# Altium footprint library NewPCBlib.PcbLib: 27 footprints (part 2 of 2)
Each footprint in its own frame and in the unit in brackets; x right, y up, seen from the top. Pads: shape width x height; smd on the part's side, far side on the other; paste and mask are expansions set on the pad; w line width, h text height; cw(c..) or ccw(c..) is an arc to the next point about the centre after c.
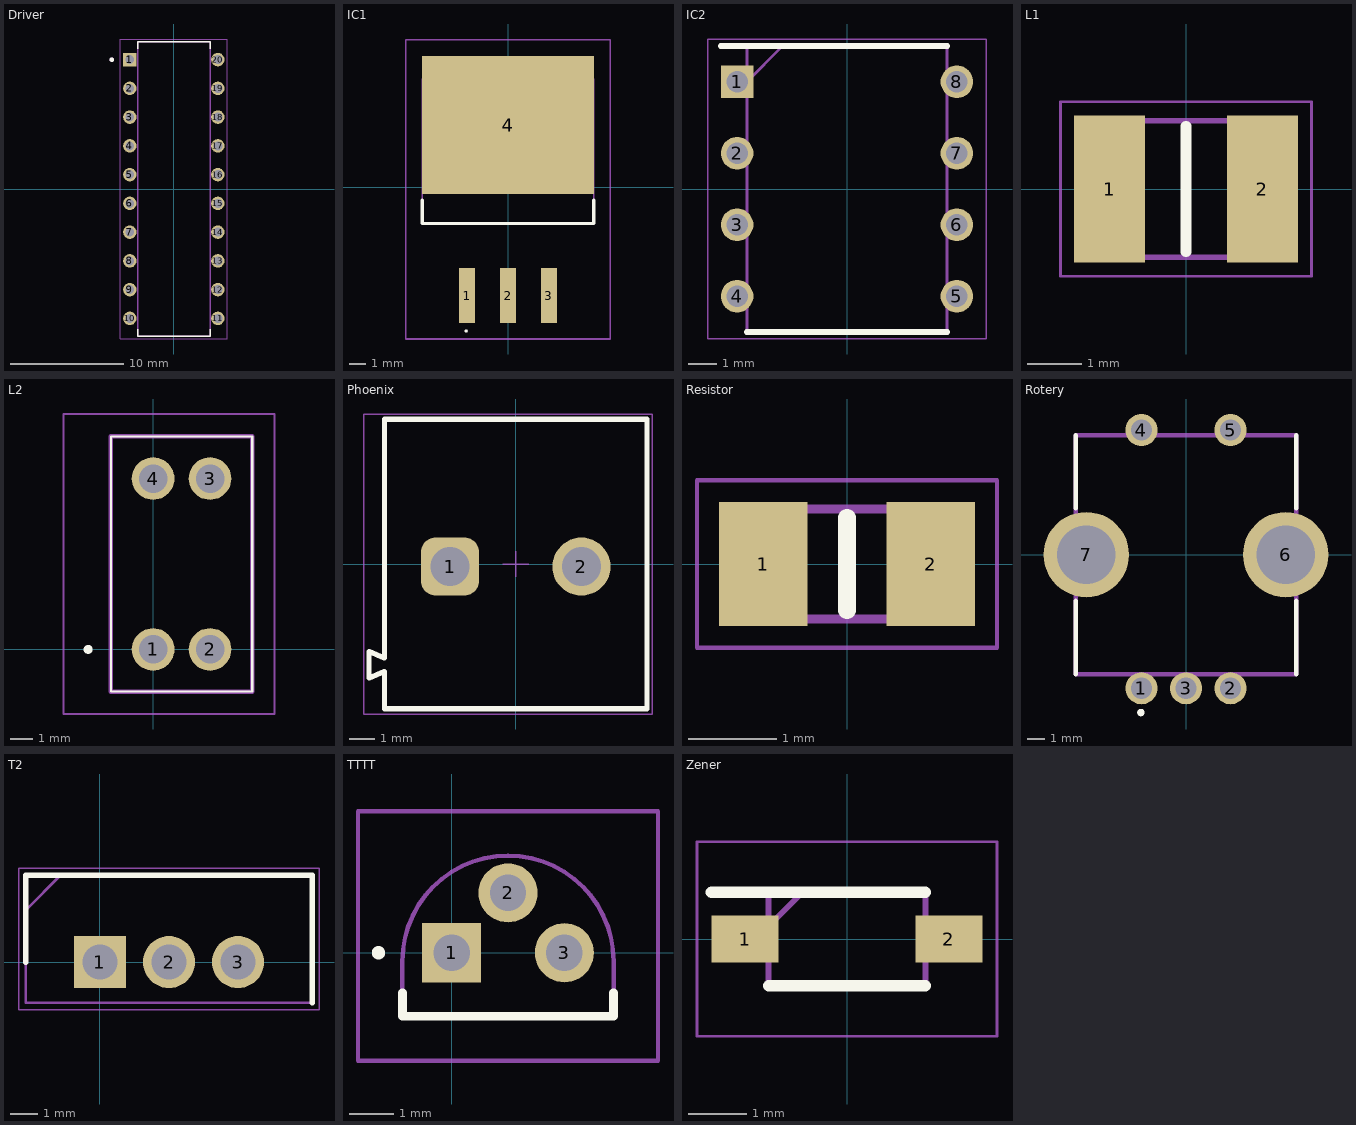
[diagram p1: the footprints below, top view; thin cyan lines are the x and y axes]

## Driver [mm]
pads (20):
  rect 1.19x1.19 hole 0.79: 1(-3.89,11.43)
  round 1.19 hole 0.79: 2(-3.89,8.89) 3(-3.89,6.35) 4(-3.89,3.81) 5(-3.89,1.27) 6(-3.89,-1.27) 7(-3.89,-3.81) 8(-3.89,-6.35) 9(-3.89,-8.89) 10(-3.89,-11.43) 11(3.89,-11.43) 12(3.89,-8.89) 13(3.89,-6.35) 14(3.89,-3.81) 15(3.89,-1.27) 16(3.89,1.27) 17(3.89,3.81) 18(3.89,6.35) 19(3.89,8.89) 20(3.89,11.43)
Top Overlay:
  circle w0.2: c-5.485,11.43 r0.1
  lines w0.127: -3.2,-12.375 -3.2,-13 3.2,-13 3.2,-12.375 ; -3.2,12.375 -3.2,13 3.2,13 3.2,12.375
Mechanical 13:
  circle w0.2: c-5.485,11.43 r0.1
  lines w0.127: -3.2,-13 3.2,-13 3.2,13 -3.2,13 -3.2,-13
Mechanical 15:
  lines w0.05: -4.735,-13.25 -4.735,13.25 4.735,13.25 4.735,-13.25 -4.735,-13.25
3D body "step_temp.STEP": height 4.31, standoff -3.6, extent -4.03,-13 4.03,13

## IC1 [mm]
pads (4):
  rect 1x3.4 smd: 1(-2.54,-6.745) 2(0,-6.745) 3(2.54,-6.745)
  rect 10.7x8.6 smd: 4(0,3.855)
Top Overlay:
  lines w0.1: -2.6,-9 ccw(c-2.6,-8.95) -2.6,-8.9 ccw(c-2.6,-8.95) -2.6,-9
  lines w0.2: -5.33,-0.8 -5.33,-2.27 5.33,-2.27 5.33,-0.8
Mechanical 13:
  lines w0.1: -5.33,-2.27 5.33,-2.27 5.33,6.745 -5.33,6.745 -5.33,-2.27
Mechanical 15:
  lines w0.1: -6.35,-9.445 6.35,-9.445 6.35,9.155 -6.35,9.155 -6.35,-9.445

## IC2 [mm]
pads (8):
  rect 1.158x1.158 hole 0.758: 1(-3.905,3.81)
  round 1.158 hole 0.758: 2(-3.905,1.27) 3(-3.905,-1.27) 4(-3.905,-3.81) 5(3.905,-3.81) 6(3.905,-1.27) 7(3.905,1.27) 8(3.905,3.81)
Top Overlay:
  lines w0.2: -4.484,5.08 3.556,5.08 ; -3.556,-5.08 3.556,-5.08
Mechanical 13:
  lines w0.1: -3.556,3.81 -2.286,5.08 ; -3.556,-5.08 -3.556,5.08 3.556,5.08 3.556,-5.08 -3.556,-5.08
Mechanical 15:
  lines w0.05: -4.956,-5.33 -4.956,5.33 4.956,5.33 4.956,-5.33 -4.956,-5.33
3D body "MCP6002-E_P.stp": height 5.33, standoff -3.5, extent -4.045,-4.75 4.045,4.75

## L1 [mm]
pads (2):
  rect 1.3x2.7 smd: 1(-1.4,0) 2(1.4,0)
Top Overlay:
  lines w0.2: 0,-1.15 0,1.15
Mechanical 13:
  lines w0.1: -1.6,-1.25 -1.6,1.25 1.6,1.25 1.6,-1.25 -1.6,-1.25
Mechanical 15:
  lines w0.05: -2.3,-1.6 -2.3,1.6 2.3,1.6 2.3,-1.6 -2.3,-1.6
3D body "CBC3225T100MR.stp": height 2.7, standoff 0, extent -1.6,-1.25 1.6,1.25

## L2 [mm]
pads (4):
  round 1.905 hole 1.27: 1(0,0) 2(2.54,0) 3(2.54,7.62) 4(0,7.62)
Top Overlay:
  lines w0.1: -1.88,-1.88 -1.88,9.5 4.42,9.5 4.42,-1.88 -1.88,-1.88
  lines w0.2: -3,0 cw(c-2.9,0) -2.8,0 cw(c-2.9,0) -3,0
Mechanical 13:
  lines w0.2: -1.88,-1.88 -1.88,9.5 4.42,9.5 4.42,-1.88 -1.88,-1.88
Mechanical 15:
  lines w0.1: -4,-2.88 -4,10.5 5.42,10.5 5.42,-2.88 -4,-2.88
3D body "CM2545X171B-10.stp": height 9.6, standoff -5, extent -1.88,-1.88 4.42,9.5

## Phoenix [mm] "Serie 2535 - 5.08 mm _ 2 pins"
height 18
pads (2):
  rrect50% 2.25x2.25 hole 1.5: 1(-2.54,-0.1)
  round 2.25 hole 1.5: 2(2.54,-0.1)
Top Overlay:
  lines w0.2: -5.67,-4.41 -5.67,-3.38 -5.08,-3.636 -5.08,5.6 5.08,5.6 5.08,-5.6 -5.08,-5.6 -5.08,-4.154 -5.67,-4.41
Top 3D Body:
  lines w0.1: -5.67,-4.41 -5.67,-3.38 -5.08,-3.636 -5.08,5.6 5.08,5.6 5.08,-5.6 -5.08,-5.6 -5.08,-4.154 -5.67,-4.41
Top Courtyard:
  lines w0.05: -0.5,0 0.5,0 ; 0,-0.5 0,0.5 ; -5.88,-5.8 5.28,-5.8 5.28,5.8 -5.88,5.8 -5.88,-5.8
Top Assembly:
  lines w0.1: -5.67,-4.41 -5.08,-4.154 -5.08,-5.6 5.08,-5.6 5.08,5.6 -5.08,5.6 -5.08,-3.636 -5.67,-3.38 -5.67,-4.41
  text ".Designator" at -7.498,-0.5 h1.5
3D body "691253510002.stp": height 18.1, standoff -3.9, extent -5.67,-5.6 5.09,5.6

## Resistor [mm]
pads (2):
  rect 1x1.4 smd: 1(-0.95,0) 2(0.95,0)
Top Overlay:
  lines w0.2: 0,-0.525 0,0.525
Mechanical 13:
  lines w0.1: -1,-0.625 -1,0.625 1,0.625 1,-0.625 -1,-0.625
Mechanical 15:
  lines w0.05: -1.7,-0.95 -1.7,0.95 1.7,0.95 1.7,-0.95 -1.7,-0.95
3D body "CR0805-JW-272ELF.stp": height 0.6, standoff 0, extent -1,-0.625 1,0.625

## Rotery [mm]
pads (7):
  round 1.8 hole 1.2: 1(-2.5,-7.5) 2(2.5,-7.5) 3(0,-7.5) 4(-2.5,7) 5(2.5,7)
  round 4.8 hole 3.28: 6(5.6,0) 7(-5.6,0)
Top Overlay:
  circle w0.254: c-2.533,-8.863 r0.082
  lines w0.254: -6.2,-6.7 -6.2,-2.6 ; -6.2,2.6 -6.2,6.7 ; 6.2,-6.7 6.2,-2.6 ; 6.2,2.6 6.2,6.7
Mechanical 13:
  lines w0.254: -6.2,-6.7 -6.2,6.7 6.2,6.7 6.2,-6.7 -6.2,-6.7
3D body "PEC11R-4225F-S0024.stp": height 31.51, standoff -3.69, extent -7.005,-7.751 6.995,7.149

## T2 [mm]
pads (3):
  rect 1.92x1.92 hole 1.28: 1(0,0)
  round 1.92 hole 1.28: 2(2.54,0) 3(5.08,0)
Top Overlay:
  lines w0.2: -2.73,0 -2.73,3.195 7.81,3.195 7.81,-1.495
Mechanical 13:
  lines w0.1: -2.73,1.925 -1.46,3.195 ; -2.73,-1.495 7.81,-1.495 7.81,3.195 -2.73,3.195 -2.73,-1.495
Mechanical 15:
  lines w0.05: -2.98,-1.745 8.06,-1.745 8.06,3.445 -2.98,3.445 -2.98,-1.745
3D body "IRF9Z34NPBF.stp": height 18.84, standoff -17.51, extent -2.668,-1.495 7.748,3.195

## TTTT [mm]
pads (3):
  rect 1.333x1.333 hole 0.82: 1(0,0)
  round 1.333 hole 0.82: 2(1.27,1.35) 3(2.54,0)
Top Overlay:
  lines w0.2: -1.11,-0.9 -1.11,-1.43 3.65,-1.43 3.65,-0.9 ; -1.7,0 ccw(c-1.65,0) -1.6,0 ; -1.7,0 cw(c-1.65,0) -1.6,0 ; -1.7,0 ccw(c-1.65,0) -1.6,0
Mechanical 13:
  lines w0.1: -1.11,-1.43 -1.11,-0.19 cw(c1.27,-0.19) 3.65,-0.19 3.65,-1.43 1.27,-1.43 -1.11,-1.43
Mechanical 15:
  lines w0.1: -2.11,-2.43 -2.11,3.19 4.65,3.19 4.65,-2.43 -2.11,-2.43
3D body "BC547CBU.stp": height 5.43, standoff -5, extent -1.11,-1.43 3.65,2.19

## Zener [mm]
pads (2):
  rect 1.15x0.8 smd: 1(-1.75,0) 2(1.75,0)
Top Overlay:
  lines w0.2: -2.325,0.8 1.345,0.8 ; -1.345,-0.8 1.345,-0.8
Mechanical 13:
  lines w0.1: -1.345,0.225 -0.77,0.8 ; -1.345,-0.8 1.345,-0.8 1.345,0.8 -1.345,0.8 -1.345,-0.8
Mechanical 15:
  lines w0.05: -2.575,-1.67 2.575,-1.67 2.575,1.67 -2.575,1.67 -2.575,-1.67
3D body "SZMMSZ5231BT1G.stp": height 1.35, standoff 0, extent -1.855,-0.8 1.855,0.8